# Altium footprint library PDIP24.PcbLib: 1 footprints
Each footprint in its own frame and in the unit in brackets; x right, y up, seen from the top. Pads: shape width x height; smd on the part's side, far side on the other; paste and mask are expansions set on the pad; w line width, h text height; cw(c..) or ccw(c..) is an arc to the next point about the centre after c.
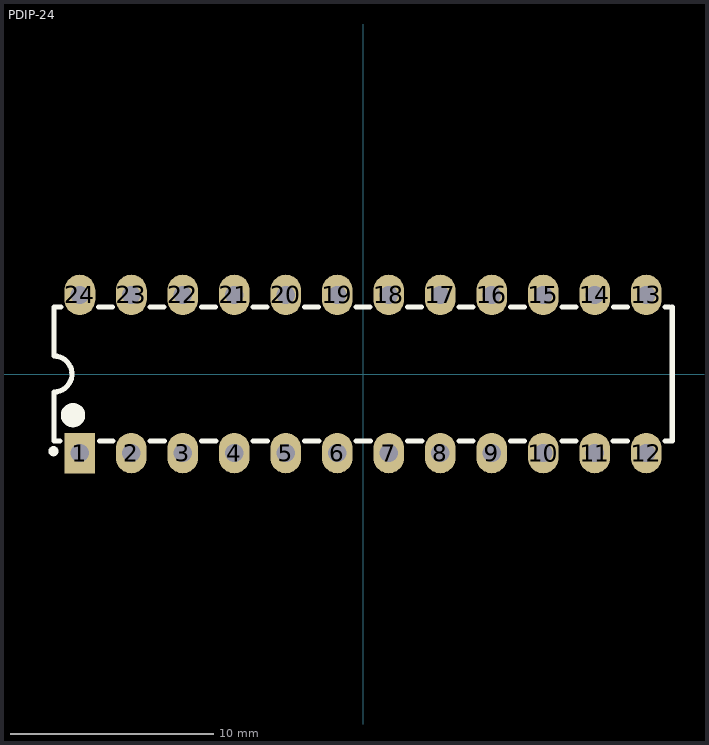
[diagram p0: the footprint, top view; thin cyan lines are the x and y axes]

## PDIP-24 [mm]
pads (24):
  rect 1.5x2 hole 0.9: 1(-13.97,-3.9)
  oval 1.5x2 hole 0.9: 2(-11.43,-3.9) 3(-8.89,-3.9) 4(-6.35,-3.9) 5(-3.81,-3.9) 6(-1.27,-3.9) 7(1.27,-3.9) 8(3.81,-3.9) 9(6.35,-3.9) 11(11.43,-3.9)
  oval 1.524x2 hole 0.9: 10(8.89,-3.9) 12(13.97,-3.9) 13(13.97,3.9) 14(11.43,3.9) 15(8.89,3.9) 16(6.35,3.9) 17(3.81,3.9) 18(1.27,3.9) 19(-1.27,3.9) 20(-3.81,3.9) 21(-6.35,3.9) 22(-8.89,3.9) 23(-11.43,3.9) 24(-13.97,3.9)
Top Overlay:
  lines w0.25: -15.395,-3.81 ccw(c-15.27,-3.809) -15.395,-3.807
  lines w0.254: -15.251,0.89 cw(c-15.25,0.001) -15.25,-0.889 -15.25,-3.3 -14.951,-3.3 ; -15.25,0.889 -15.25,3.3 -14.895,3.3 ; -13.045,3.3 -12.355,3.3 ; -12.989,-3.3 -12.346,-3.3 ; -10.514,-3.3 -9.806,-3.3 ; -10.505,3.3 -9.815,3.3 ; -7.974,-3.3 -7.266,-3.3 ; -7.965,3.3 -7.275,3.3 ; -5.434,-3.3 -4.726,-3.3 ; -5.425,3.3 -4.735,3.3 ; -2.894,-3.3 -2.186,-3.3 ; -2.885,3.3 -2.195,3.3 ; -0.354,-3.3 0.354,-3.3 ; -0.345,3.3 0.345,3.3 ; 2.186,-3.3 2.894,-3.3 ; 2.195,3.3 2.885,3.3 ; 4.726,-3.3 5.434,-3.3 ; 4.735,3.3 5.425,3.3 ; 7.266,-3.3 7.965,-3.3 ; 7.275,3.3 7.965,3.3 ; 9.815,-3.3 10.514,-3.3 ; 9.815,3.3 10.505,3.3 ; 12.346,-3.3 13.045,-3.3 ; 12.355,3.3 13.045,3.3 ; 14.895,-3.3 15.25,-3.3 15.25,3.3 ; 14.895,3.3 15.113,3.3
  lines w0.6: -14.605,-2.032 ccw(c-14.305,-2.029) -14.605,-2.027